# Altium footprint library FFC, FPC (Flat Flexible) Connectors.PcbLib: 1 footprints
Each footprint in its own frame and in the unit in brackets; x right, y up, seen from the top. Pads: shape width x height; smd on the part's side, far side on the other; paste and mask are expansions set on the pad; w line width, h text height; cw(c..) or ccw(c..) is an arc to the next point about the centre after c.
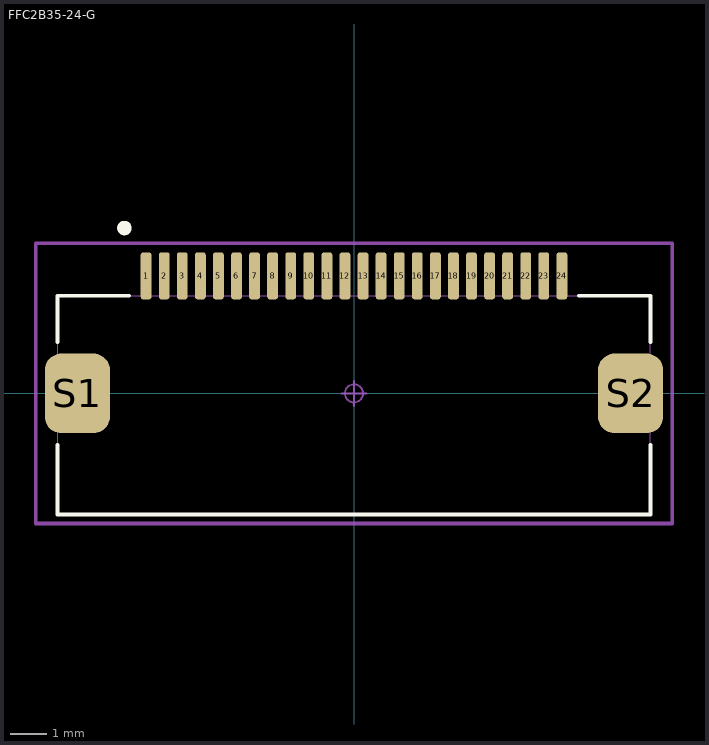
[diagram p0: the footprint, top view; thin cyan lines are the x and y axes]

## FFC2B35-24-G [mm]
pads (26):
  rrect50% 0.3x1.3 smd mask+0.04: 1(-5.75,3.25) 2(-5.25,3.25) 3(-4.75,3.25) 4(-4.25,3.25) 5(-3.75,3.25) 6(-3.25,3.25) 7(-2.75,3.25) 8(-2.25,3.25) 9(-1.75,3.25) 10(-1.25,3.25) 11(-0.75,3.25) 12(-0.25,3.25) 13(0.25,3.25) 14(0.75,3.25) 15(1.25,3.25) 16(1.75,3.25) 17(2.25,3.25) 18(2.75,3.25) 19(3.25,3.25) 20(3.75,3.25) 21(4.25,3.25) 22(4.75,3.25) 23(5.25,3.25) 24(5.75,3.25)
  rrect50% 1.8x2.2 smd mask+0.04: S1(-7.65,0) S2(7.65,0)
Top Overlay:
  circle w0.2: c-6.35,4.572 r0.1
  lines w0.1: -8.2,-1.42 -8.2,-3.35 8.2,-3.35 8.2,-1.42 ; -8.2,1.42 -8.2,2.7 -6.22,2.7 ; 6.22,2.7 8.2,2.7 8.2,1.42
Mechanical 13:
  lines w0.025: -8.2,-3.35 -8.2,2.7 8.2,2.7 8.2,-3.35 -8.2,-3.35
Mechanical 15:
  circle w0.05: c0,0 r0.25
  lines w0.05: -0.35,0 0.35,0 ; 0,-0.35 0,0.35
  lines w0.1: -8.8,-3.6 8.8,-3.6 8.8,4.15 -8.8,4.15 -8.8,-3.6
3D body "FFC2B35-24-T.stp": height 1.99, standoff -0.01, extent -8.2,-3.373 8.2,3.387